# EAGLE library part LTC2605 (library ic)
LTC2605: Octal 16-bit Rail-to-Rail DAC (Linear Technology) 5V, 180kHz, 120nV/rt(Hz)
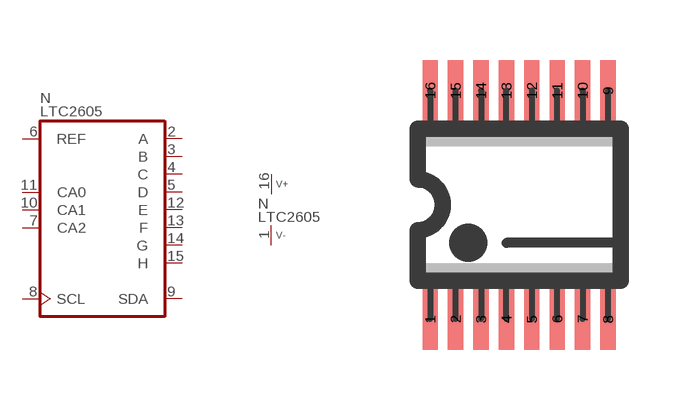
[diagram p104: symbol with the pads of SSOP16; footprint SSOP16]

Designator prefix N; gates  =LTC2605 P=V+-

## LTC2605  [SSOP16]
1  P:V-  pwr
2   :A  out
3   :B  out
4   :C  out
5   :D  out
6   :REF  in
7   :CA2  in
8   :SCL  in
9   :SDA
10   :CA1  in
11   :CA0  in
12   :E  out
13   :F  out
14   :G  out
15   :H  out
16  P:V+  pwr

## Footprint SSOP16 (pad centres in mm)
SSOP-16, SMD SSOP IC package, 16 pins (fine pitch SMD)
smd 0.381 x 1.524: 1 -2.223,-2.857; 2 -1.587,-2.857; 3 -0.953,-2.857; 4 -0.318,-2.857; 5 0.318,-2.857; 6 0.953,-2.857; 7 1.587,-2.857; 8 2.223,-2.857; 9 2.223,2.857; 10 1.587,2.857; 11 0.953,2.857; 12 0.318,2.857; 13 -0.318,2.857; 14 -0.953,2.857; 15 -1.587,2.857; 16 -2.223,2.857